# Altium footprint library CN_ModJack_6P.PcbLib: 1 footprints
Each footprint in its own frame and in the unit in brackets; x right, y up, seen from the top. Pads: shape width x height; smd on the part's side, far side on the other; paste and mask are expansions set on the pad; w line width, h text height; cw(c..) or ccw(c..) is an arc to the next point about the centre after c.
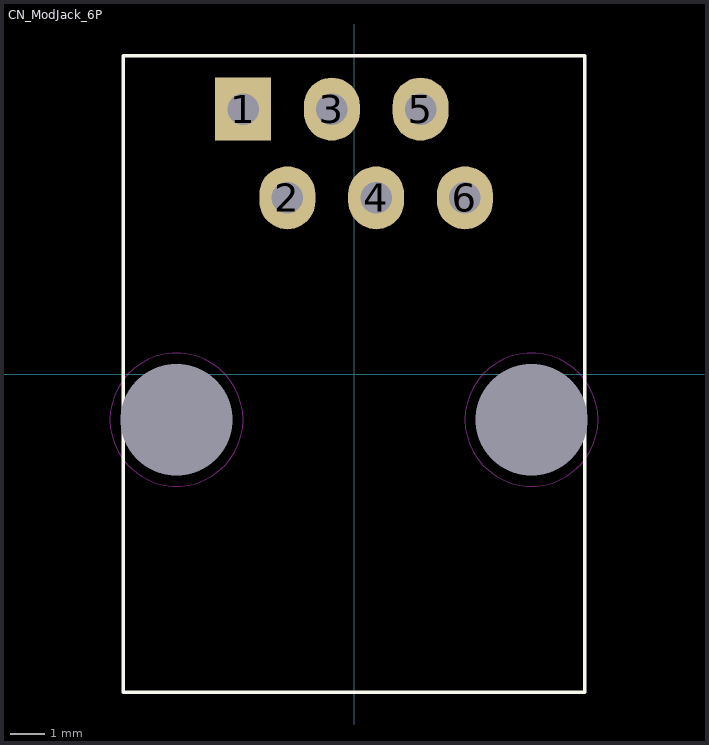
[diagram p0: the footprint, top view; thin cyan lines are the x and y axes]

## CN_ModJack_6P [mm] "Modular Jack 6C/6P"
pads (8):
  round 0 hole 3.2 unplated mask+1.63: 0(-5.08,-1.308) 0(5.08,-1.308)
  rect 1.6x1.8 hole 0.9: 1(-3.175,7.582)
  oval 1.6x1.8 hole 0.9: 2(-1.905,5.042) 3(-0.635,7.582) 4(0.635,5.042) 5(1.905,7.582) 6(3.175,5.042)
Top Overlay:
  lines w0.102: -6.604,-9.106 -6.604,9.106 6.604,9.106 6.604,-9.106 -6.604,-9.106
Multi-Layer keep-out:
  circle w0.025: c5.08,-1.308 r1.905
  circle w0.025: c-5.08,-1.308 r1.905
3D body: height 11.5, standoff -3.3, extent -6.605,-9.188 6.605,8.912